# EAGLE library part SCHA5B0200 (library SCHA5B0200_hand)
Memory Card Connectors microSD Rev Mount Push-push w/Switch
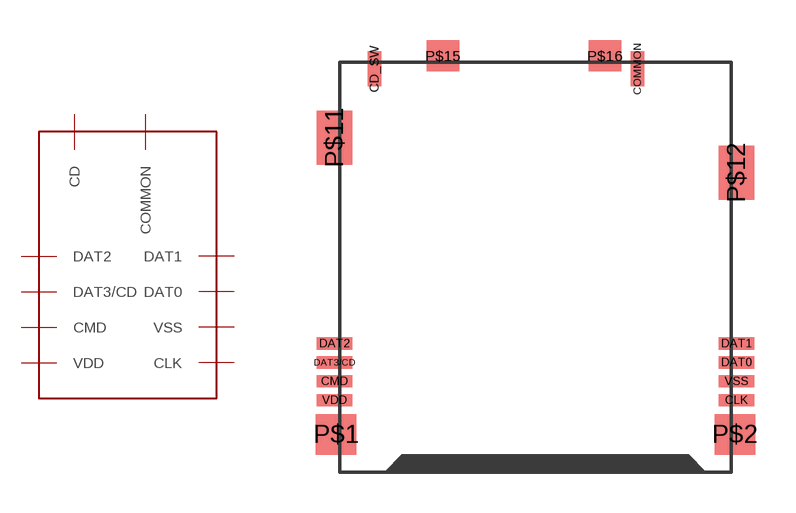
[diagram p0: symbol with the pads of SCHA5B0200; footprint SCHA5B0200]

Designator prefix SD

## SCHA5B0200 (MANUF: ALPS; PARTNUM: SCHA5B0200)  [SCHA5B0200]
CD_SW  CD
CLK  CLK
CMD  CMD
COMMON  COMMON
DAT0  DAT0
DAT1  DAT1
DAT2  DAT2
DAT3/CD  DAT3/CD
VDD  VDD
VSS  VSS

## Footprint SCHA5B0200 (pad centres in mm)
MicroSD Push-push Reverse Mount connector Alps SCHA5B0200
smd 0.5 x 1.3: CD_SW -5.975,13.55; COMMON 3.775,13.55
smd 1.3 x 0.45: CLK 7.45,1.265; CMD -7.45,1.965; DAT0 7.45,2.665; DAT1 7.45,3.365; DAT2 -7.45,3.365; DAT3/CD -7.45,2.665; VDD -7.45,1.265; VSS 7.45,1.965
smd 1.5 x 1.5: P$1 -7.388,0; P$2 7.388,0
smd 1.3 x 2: P$11 -7.45,11; P$12 7.45,9.7
smd 1.2 x 1.15: P$15 -3.425,14.025; P$16 2.575,14.025